# Altium footprint library QQ2440V3封装库.PcbLib: 50 footprints (part 3 of 4)
Each footprint in its own frame and in the unit in brackets; x right, y up, seen from the top. Pads: shape width x height; smd on the part's side, far side on the other; paste and mask are expansions set on the pad; w line width, h text height; cw(c..) or ccw(c..) is an arc to the next point about the centre after c.
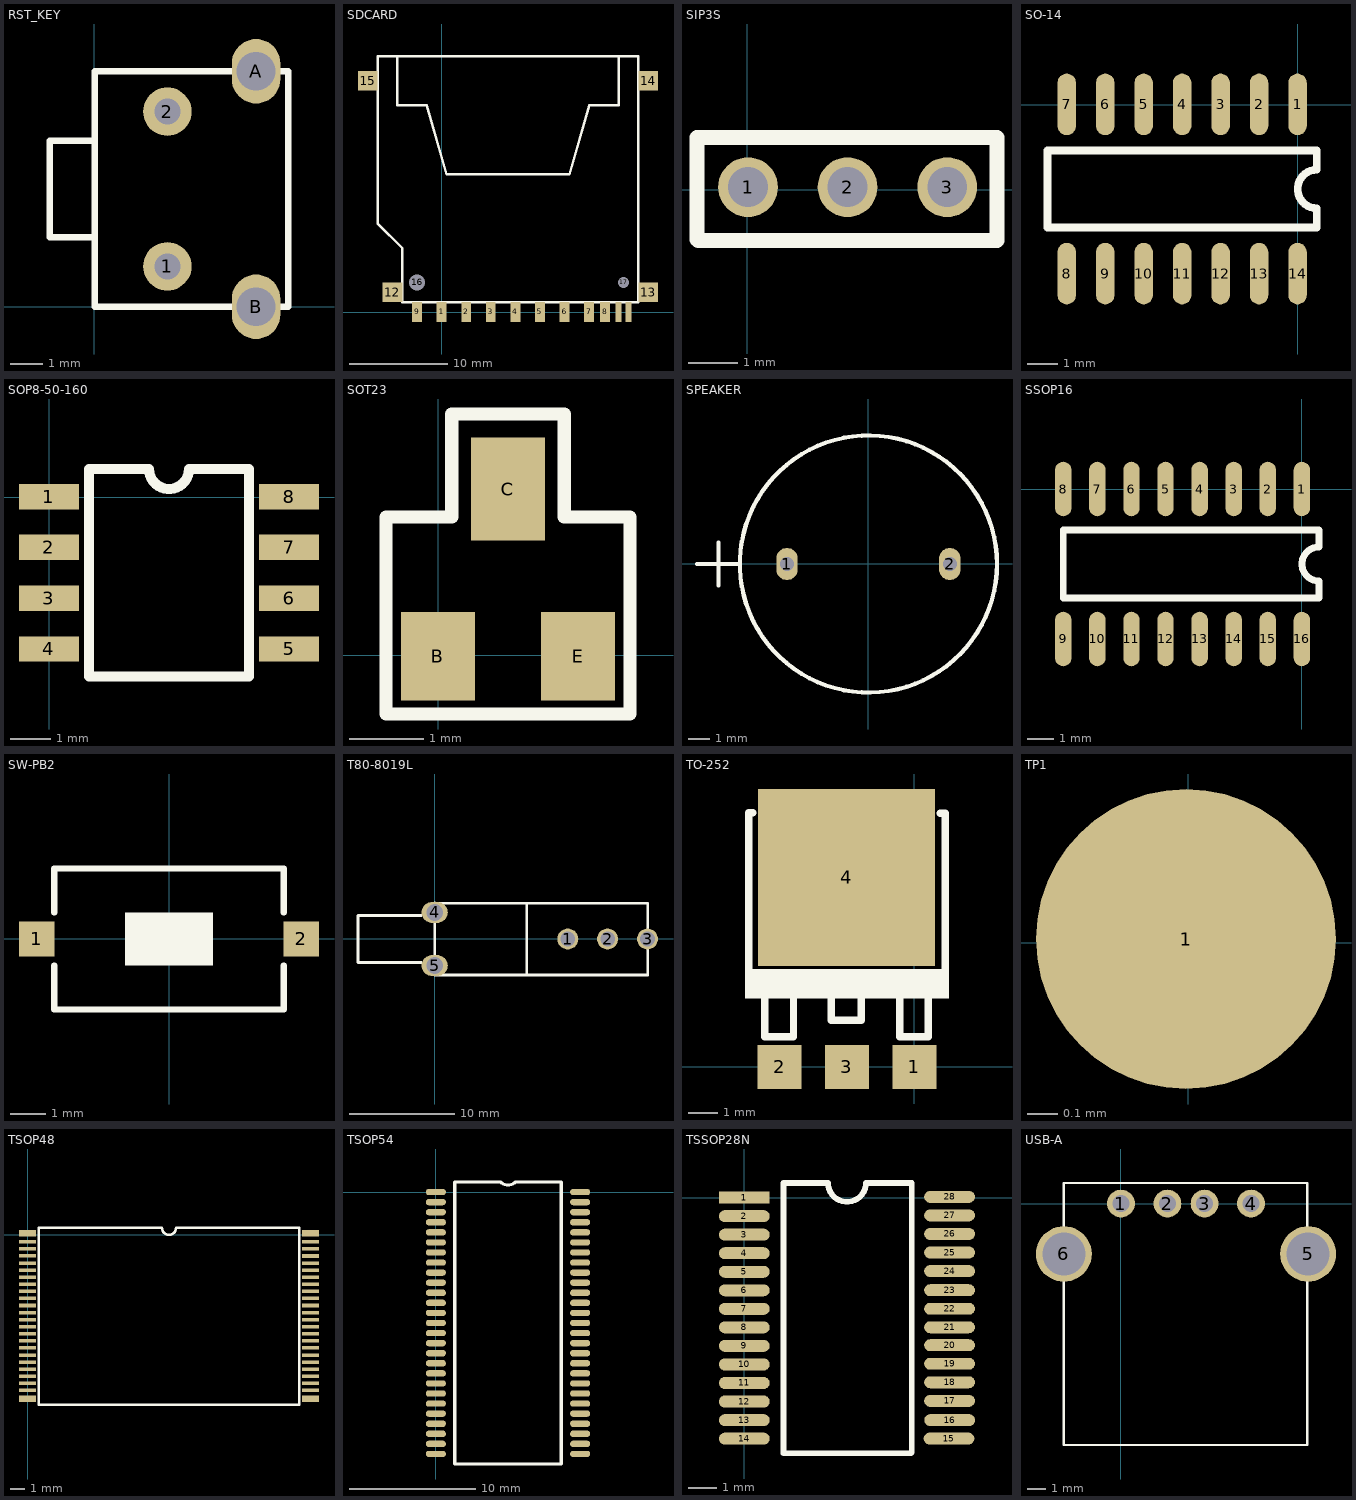
[diagram p2: the footprints below, top view; thin cyan lines are the x and y axes]

## RST_KEY [mm]
pads (4):
  round 1.5 hole 0.8: 1(2.272,1.254) 2(2.272,6.054)
  oval 1.5x2 hole 1.2: A(5.022,7.304) B(5.022,0.004)
TopOverlay:
  lines w0.2: 0.022,2.154 -1.378,2.154 -1.378,5.154 0.022,5.154 ; 0.022,0.004 6.022,0.004 6.022,7.304 0.022,7.304 0.022,0.004

## SDCARD [mm]
pads (17):
  rect 1x2 smd: 1(0.007,0.016) 2(2.507,0.016) 3(5.007,0.016) 4(7.507,0.016) 5(10.007,0.016) 6(12.507,0.016) 7(15.007,0.016) 8(16.632,0.016) 9(-2.493,0.016)
  rect 0.6x2 smd: 10(19.007,0.016) 11(18.007,0.016)
  rect 2x2 smd: 12(-4.993,2.016) 13(21.007,2.016) 14(21.007,23.516) 15(-7.493,23.516)
  round 1.5 hole 1.6: 16(-2.493,3.016)
  round 1 hole 1.1: 17(18.507,3.016)
TopOverlay:
  lines w0.254: -4.493,26.016 -4.493,21.016 -1.493,21.016 0.507,14.016 13.007,14.016 15.007,21.016 18.007,21.016 18.007,26.016 ; -6.493,9.016 -6.493,26.016 20.007,26.016 20.007,1.016 -3.993,1.016 -3.993,6.516 -6.493,9.016

## SIP3S [mm]
pads (3):
  round 1.2 hole 0.8: 1(0.017,0.052) 2(2.017,0.052) 3(4.017,0.052)
TopOverlay:
  lines w0.305: -1.008,-0.998 -0.983,-1.023 5.017,-1.023 5.017,1.052 -1.008,1.052 -1.008,0.052 -1.008,-0.998

## SO-14 [mil]
pads (14):
  oval 24x80 smd: 1(0.02,0.24) 2(-49.98,0.24) 3(-99.98,0.24) 4(-149.98,0.24) 5(-199.98,0.24) 6(-249.98,0.24) 7(-299.98,0.24) 8(-299.98,-219.76) 9(-249.98,-219.76) 10(-199.98,-219.76) 11(-149.98,-219.76) 12(-99.98,-219.76) 13(-49.98,-219.76) 14(0.02,-219.76)
TopOverlay:
  lines w10: -324.98,-159.76 25.02,-159.76 25.02,-134.76 cw(c25.02,-109.76) 25.02,-84.76 25.02,-59.76 -324.98,-59.76 -324.98,-159.76

## SOP8-50-160 [mm]
pads (8):
  rect 1.5x0.635 smd: 1(-0.009,0.01) 2(-0.009,-1.26) 3(-0.009,-2.53) 4(-0.009,-3.8) 5(5.991,-3.8) 6(5.991,-2.53) 7(5.991,-1.26) 8(5.991,0.01)
TopOverlay:
  lines w0.254: 0.991,-4.49 4.991,-4.49 4.991,0.7 3.491,0.7 cw(c2.991,0.7) 2.491,0.7 0.991,0.7 0.991,-4.49

## SOT23 [mm]
pads (3):
  rect 1x1.2 smd: B(-0.002,-0.014) E(1.898,-0.014)
  rect 1x1.4 smd: C(0.948,2.252)
TopOverlay:
  lines w0.178: -0.703,-0.796 -0.703,1.871 0.186,1.871 0.186,3.268 1.71,3.268 1.71,1.871 2.599,1.871 2.599,-0.796 -0.703,-0.796

## SPEAKER [mm]
pads (2):
  oval 1x1.5 hole 0.65: 1(-3.796,-0.001) 2(3.804,-0.001)
TopOverlay:
  circle w0.2: c0.004,-0.001 r6
  lines w0.2: -7.996,-0.001 -5.996,-0.001 ; -6.996,-1.001 -6.996,0.999

## SSOP16 [mil]
pads (16):
  oval 24x80 smd: 1(-0.06,0.43) 2(-50.06,0.43) 3(-100.06,0.43) 4(-150.06,0.43) 5(-200.06,0.43) 6(-250.06,0.43) 7(-300.06,0.43) 8(-350.06,0.43) 9(-350.06,-219.57) 10(-300.06,-219.57) 11(-250.06,-219.57) 12(-200.06,-219.57) 13(-150.06,-219.57) 14(-100.06,-219.57) 15(-50.06,-219.57) 16(-0.06,-219.57)
TopOverlay:
  lines w10: -350.06,-159.57 24.94,-159.57 24.94,-134.57 cw(c24.94,-109.57) 24.94,-84.57 24.94,-59.57 -350.06,-59.57 -350.06,-159.57

## SW-PB2 [mm]
pads (2):
  rect 1x1 smd: 1(-3.756,-0.007) 2(3.744,-0.007)
TopOverlay:
  rectangle: -1.256,-0.757 1.244,0.743
  lines w0.178: -3.256,-0.757 -3.256,-2.007 3.244,-2.007 3.244,-0.757 ; -3.256,0.743 -3.256,1.993 3.244,1.993 3.244,0.743

## T80-8019L [mm]
pads (5):
  round 2 hole 1.4: 1(12.686,-0.01) 2(16.486,-0.01) 3(20.296,-0.01)
  oval 2.5x2 hole 1.6: 4(-0.014,2.53) 5(-0.014,-2.55)
TopOverlay:
  lines w0.254: -1.289,-2.26 -7.334,-2.26 -7.334,2.24 -1.289,2.24 ; -0.014,3.415 20.311,3.415 20.311,-2.55 20.311,-3.435 20.306,-3.44 -0.014,-3.44 -0.014,3.42 ; 8.786,-3.44 8.786,3.415

## TO-252 [mm]
pads (4):
  rect 1.5x1.5 smd: 1(0.013,-0.006) 2(-4.559,-0.006) 3(-2.273,-0.006)
  rect 6x6 smd: 4(-2.287,6.419)
TopOverlay:
  rectangle: -5.735,2.318 1.19,3.318
  lines w0.254: -5.612,3.144 -5.612,8.619 ; -5.587,8.619 -5.462,8.619 ; -5.062,2.269 -5.062,1.019 -4.087,1.019 -4.087,2.294 ; -2.812,2.269 -2.812,1.569 -1.787,1.569 -1.787,2.369 ; -0.487,2.269 -0.487,1.019 0.488,1.019 ; 0.488,2.294 0.488,1.019 ; 0.888,8.594 1.038,8.594 ; 1.063,3.169 1.063,8.594 ; 0.488,1.019 0.488,1.019

## TP1 [mm]
pads (1):
  round 1 smd: 1(-0.008,0.012)

## TSOP48 [mm]
pads (48):
  rect 1.2x0.45 smd: 1(-0.021,0.108) 24(-0.021,-11.592) 25(19.979,-11.592) 48(19.979,0.108)
  rect 1.2x0.25 smd: 2(-0.021,-0.492) 3(-0.021,-0.992) 4(-0.021,-1.492) 5(-0.021,-1.992) 6(-0.021,-2.492) 7(-0.021,-2.992) 8(-0.021,-3.492) 9(-0.021,-3.992) 10(-0.021,-4.492) 11(-0.021,-4.992) 12(-0.021,-5.492) 13(-0.021,-5.992) 14(-0.021,-6.492) 15(-0.021,-6.992) 16(-0.021,-7.492) 17(-0.021,-7.992) 18(-0.021,-8.492) 19(-0.021,-8.992) 20(-0.021,-9.492) 21(-0.021,-9.992) 22(-0.021,-10.492) 23(-0.021,-10.992) 26(19.979,-10.992) 27(19.979,-10.492) 28(19.979,-9.992) 29(19.979,-9.492) 30(19.979,-8.992) 31(19.979,-8.492) 32(19.979,-7.992) 33(19.979,-7.492) 34(19.979,-6.992) 35(19.979,-6.492) 36(19.979,-5.992) 37(19.979,-5.492) 38(19.979,-4.992) 39(19.979,-4.492) 40(19.979,-3.992) 41(19.979,-3.492) 42(19.979,-2.992) 43(19.979,-2.492) 44(19.979,-1.992) 45(19.979,-1.492) 46(19.979,-0.992) 47(19.979,-0.492)
TopOverlay:
  lines w0.178: 0.779,-11.992 19.179,-11.992 19.179,0.508 10.479,0.508 cw(c9.979,0.508) 9.479,0.508 0.779,0.508 0.779,-11.992

## TSOP54 [mm]
pads (54):
  oval 1.6x0.5 smd: 1(-0.009,0.009) 2(-0.009,-0.791) 3(-0.009,-1.591) 4(-0.009,-2.391) 5(-0.009,-3.191) 6(-0.009,-3.991) 7(-0.009,-4.791) 8(-0.009,-5.591) 9(-0.009,-6.391) 10(-0.009,-7.191) 11(-0.009,-7.991) 12(-0.009,-8.791) 13(-0.009,-9.591) 14(-0.009,-10.391) 15(-0.009,-11.191) 16(-0.009,-11.991) 17(-0.009,-12.791) 18(-0.009,-13.591) 19(-0.009,-14.391) 20(-0.009,-15.191) 21(-0.009,-15.991) 22(-0.009,-16.791) 23(-0.009,-17.591) 24(-0.009,-18.391) 25(-0.009,-19.191) 26(-0.009,-19.991) 27(-0.009,-20.791) 28(11.451,-20.791) 29(11.451,-19.991) 30(11.451,-19.191) 31(11.451,-18.391) 32(11.451,-17.591) 33(11.451,-16.791) 34(11.451,-15.991) 35(11.451,-15.191) 36(11.451,-14.391) 37(11.451,-13.591) 38(11.451,-12.791) 39(11.451,-11.991) 40(11.451,-11.191) 41(11.451,-10.391) 42(11.451,-9.591) 43(11.451,-8.791) 44(11.451,-7.991) 45(11.451,-7.191) 46(11.451,-6.391) 47(11.451,-5.591) 48(11.451,-4.791) 49(11.451,-3.991) 50(11.451,-3.191) 51(11.451,-2.391) 52(11.451,-1.591) 53(11.451,-0.791) 54(11.451,0.009)
TopOverlay:
  lines w0.254: 1.491,-21.591 1.491,0.809 5.13,0.809 ccw(c5.721,1.4) 6.312,0.809 9.951,0.809 9.951,-21.591 1.491,-21.591

## TSSOP28N [mm]
pads (28):
  rect 1.78x0.42 smd: 1(0.001,-0.003)
  oval 1.78x0.42 smd: 2(0.001,-0.653) 3(0.001,-1.303) 4(0.001,-1.953) 5(0.001,-2.603) 6(0.001,-3.253) 7(0.001,-3.903) 8(0.001,-4.553) 9(0.001,-5.203) 10(0.001,-5.853) 11(0.001,-6.503) 12(0.001,-7.153) 13(0.001,-7.803) 14(0.001,-8.453) 15(7.176,-8.453) 16(7.201,-7.803) 17(7.197,-7.128) 18(7.197,-6.478) 19(7.197,-5.828) 20(7.197,-5.178) 21(7.197,-4.55) 22(7.197,-3.9) 23(7.197,-3.25) 24(7.197,-2.578) 25(7.197,-1.928) 26(7.197,-1.278) 27(7.197,-0.628) 28(7.197,0.022)
TopOverlay:
  lines w0.204: 5.84,-8.967 1.371,-8.967 1.371,0.511 2.937,0.511 ccw(c3.601,0.511) 4.265,0.511 5.871,0.511 5.871,-7.765 5.871,-8.936

## USB-A [mm]
pads (6):
  round 1.5 hole 0.92: 1(0.011,0.013) 2(2.511,0.013) 3(4.511,0.013) 4(7.011,0.013)
  round 3 hole 2.3: 5(10.081,-2.697) 6(-3.059,-2.697)
TopOverlay:
  lines w0.127: -3.059,-12.977 10.041,-12.977 10.041,1.123 -3.059,1.123 -3.059,-2.697 -3.059,-12.977